# Altium integrated library SRD-12VDC-SL-C.IntLib: 1 symbol
Pins are listed as number, name and electrical type; pins without a type are passive.

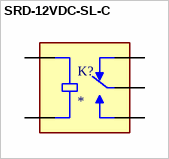
[diagram p0: symbol SRD-12VDC-SL-C]

## SRD-12VDC-SL-C
designator K?
General Purpose Non Latching 12VDC SPDT Through Hole Relays RoHS; MP: SRD-12VDC-SL-C; Price: None; Package: None; Availability: Unavailable; Value: *
footprint RELAY_SRD-12VDC-SL-C
pins: COIL1, COIL2, COM, NC, NO